# EAGLE library part SS23D03 (library gost_buttons_switches)
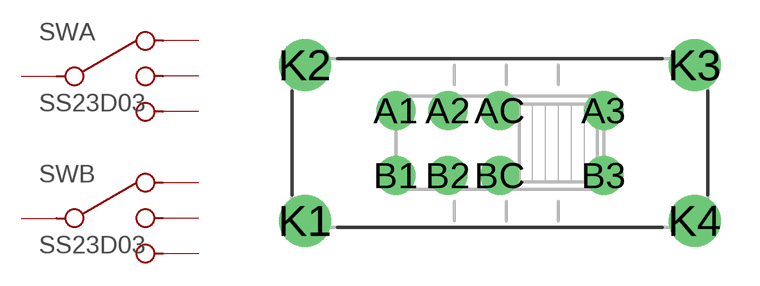
[diagram p0: symbol with the pads of SS23D03; footprint SS23D03]

Designator prefix SW; gates A=SW3T B=SW3T

## SS23D03  [SS23D03]
A1  A:T1
A2  A:T2
A3  A:T3
AC  A:P
B1  B:T1
B2  B:T2
B3  B:T3
BC  B:P

## Footprint SS23D03 (pad centres in mm)
drill 0.9 pad 1.5: A1 -4,1.25; A2 -2,1.25; A3 4,1.25; AC 0,1.25; B1 -4,-1.25; B2 -2,-1.25; B3 4,-1.25; BC 0,-1.25
drill 1.3 pad 2: K1 -7.5,-3; K2 -7.5,3; K3 7.5,3; K4 7.5,-3